# Altium footprint library 1N5824.PcbLib: 1 footprints
Each footprint in its own frame and in the unit in brackets; x right, y up, seen from the top. Pads: shape width x height; smd on the part's side, far side on the other; paste and mask are expansions set on the pad; w line width, h text height; cw(c..) or ccw(c..) is an arc to the next point about the centre after c.
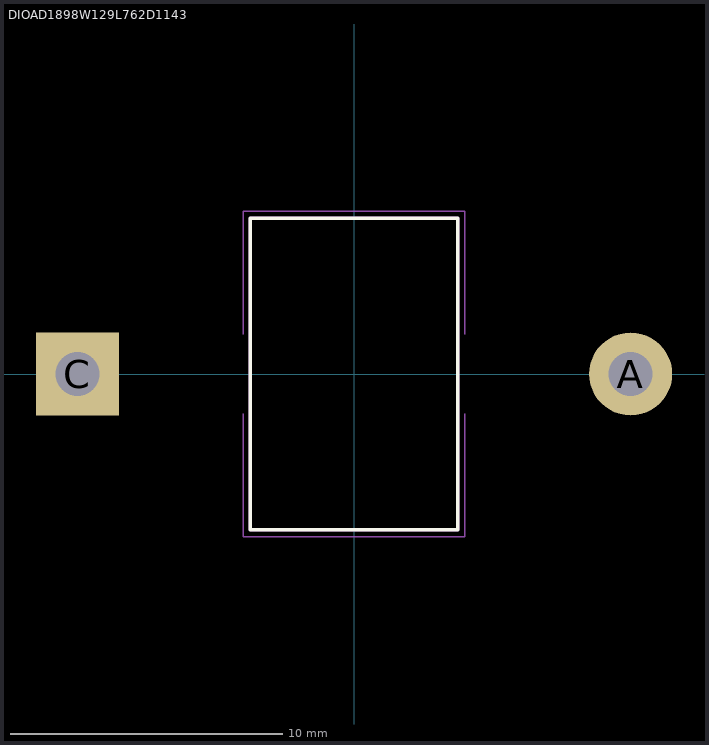
[diagram p0: the footprint, top view; thin cyan lines are the x and y axes]

## DIOAD1898W129L762D1143 [mil]
pads (2):
  round 120 hole 63.78: A(400,0)
  rect 120x120 hole 63.78: C(-400,0)
Top Overlay:
  lines w5: -150,-225.2 150,-225.2 150,0 150,225.2 -150,225.2 -150,0 -150,-225.2
Mechanical 13:
  lines w5: -150,-225.2 150,-225.2 150,0 150,225.2 -150,225.2 -150,0 -150,-225.2
Mechanical 15:
  lines w1.97: -159.84,-57.68 -159.84,-235.04 159.84,-235.04 159.84,-57.68 ; -159.84,57.68 -159.84,235.04 159.84,235.04 159.84,57.68
3D body "CR_1N5824_MCH.step": height 450.04, standoff -100, extent -427.99,-225.1 427.99,225.1